# Altium schematic symbol library SCH - POWER - SWITCHMODE - TI TPS51511_RHL_20.SchLib: 1 symbol
Pins are listed as number, name and electrical type; pins without a type are passive.

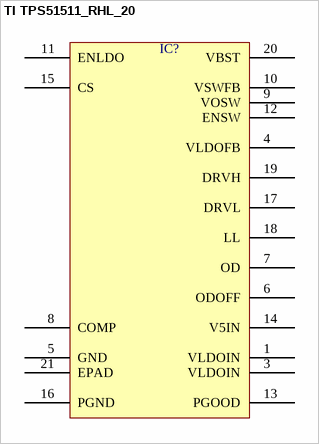
[diagram p0: symbol TI TPS51511_RHL_20]

## TI TPS51511_RHL_20
designator IC?  (value not drawn)
pins: 1 VLDOIN, 3 VLDOIN, 4 VLDOFB, 5 GND, 6 ODOFF, 7 OD, 8 COMP, 9 VOSW, 10 VSWFB, 11 ENLDO, 12 ENSW, 13 PGOOD, 14 V5IN, 15 CS, 16 PGND, 17 DRVL, 18 LL, 19 DRVH, 20 VBST, 21 EPAD